# Altium footprint library jointbar.PCBLIB: 47 footprints (part 1 of 3)
Each footprint in its own frame and in the unit in brackets; x right, y up, seen from the top. Pads: shape width x height; smd on the part's side, far side on the other; paste and mask are expansions set on the pad; w line width, h text height; cw(c..) or ccw(c..) is an arc to the next point about the centre after c.
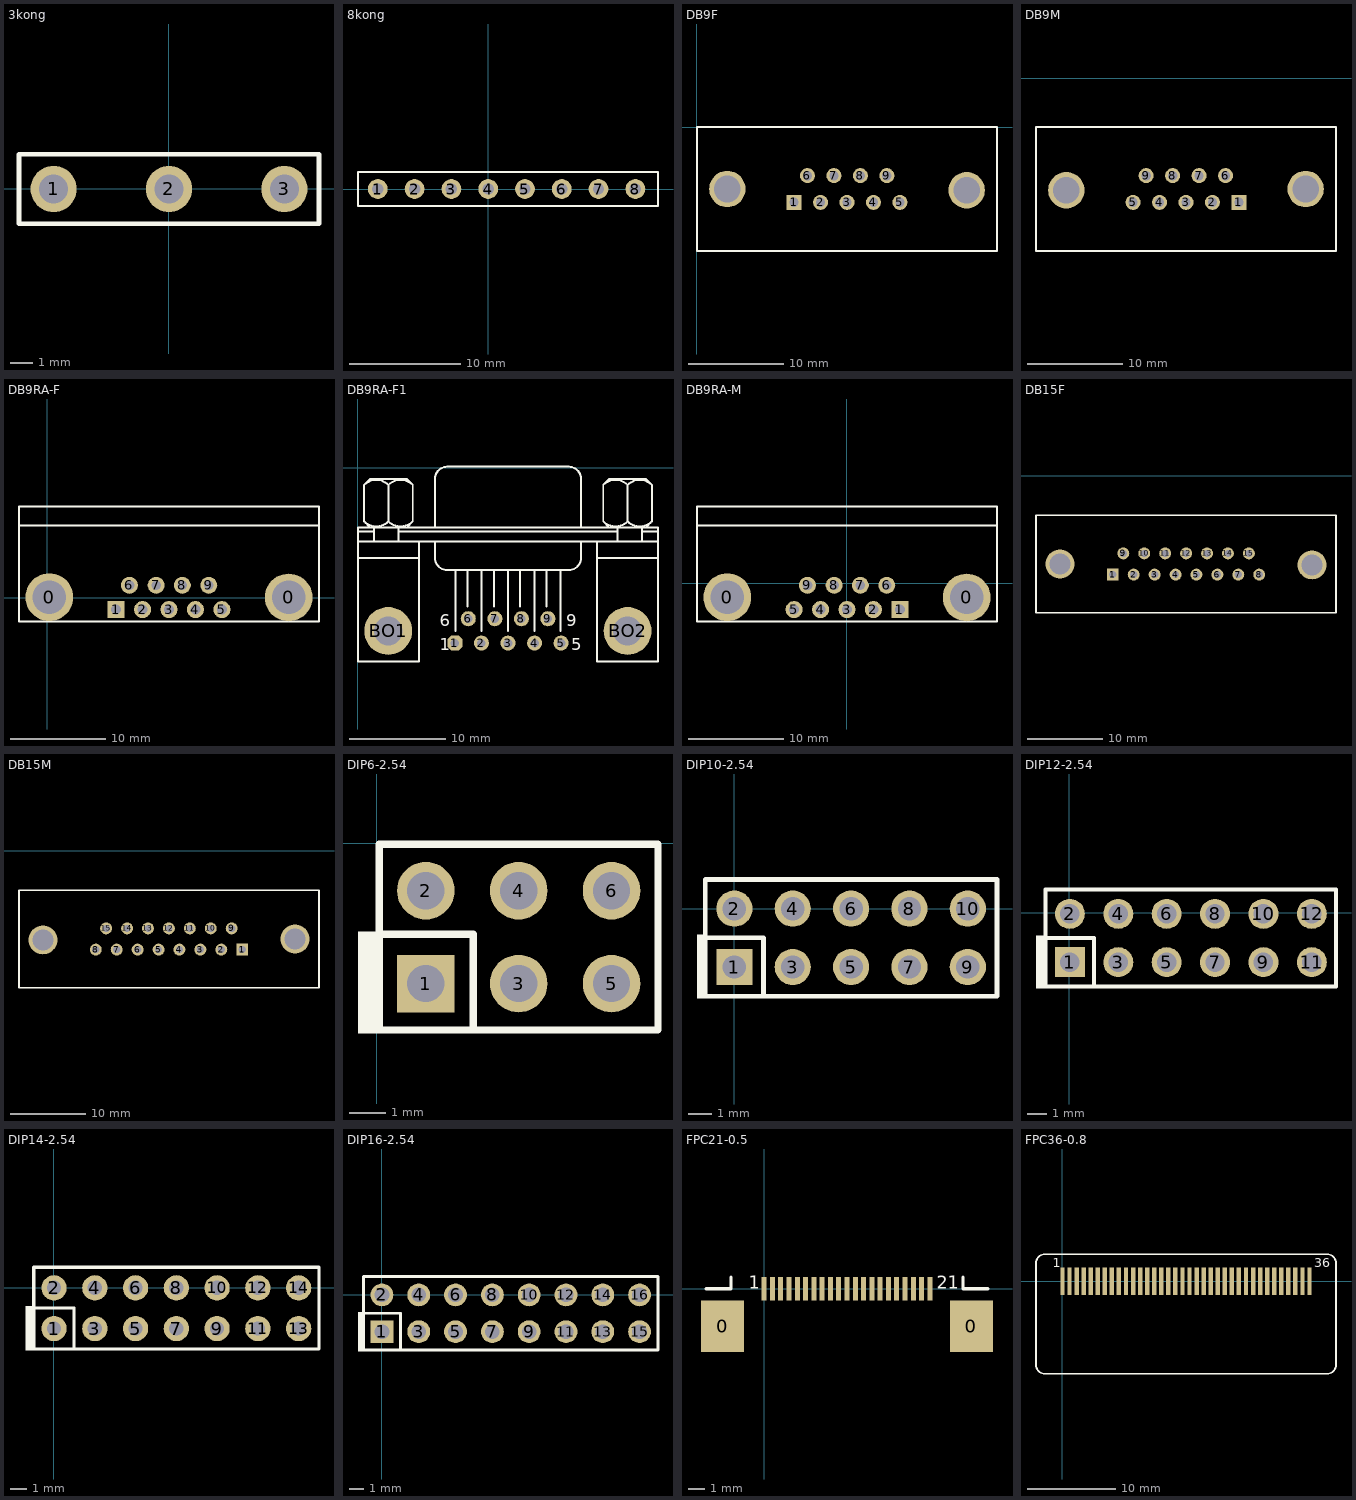
[diagram p0: the footprints below, top view; thin cyan lines are the x and y axes]

## 3kong [mil]
pads (3):
  round 80 hole 50: 1(-200,0) 2(0,0) 3(200,0)
TopOverlay:
  lines w8: -260,-60 -260,60 260,60 260,-60 -260,-60

## 8kong [mil]
pads (8):
  round 70 hole 40: 1(-390,0) 2(-260,0) 3(-130,0) 4(0,0) 5(130,0) 6(260,0) 7(390,0) 8(520,0)
TopOverlay:
  lines w8: -460,-60 580,-60 600,-60 600,60 -460,60 -460,-60

## DB9F [mil]
pads (11):
  rect 62x62 hole 38: 1(401,-310)
  round 62 hole 38: 2(510,-310) 3(619,-310) 4(728,-310) 5(837,-310) 6(456,-200) 7(565,-200) 8(674,-200) 9(783,-200)
  round 150 hole 110: ""(126,-255) ""(1112,-260)
TopOverlay:
  lines w8: 1,-510 1237,-510 1237,0 1,0 1,-510

## DB9M [mil]
pads (11):
  rect 62x62 hole 38: 1(1038,-512)
  round 62 hole 38: 2(929,-512) 3(820,-512) 4(711,-512) 5(602,-512) 6(983,-402) 7(874,-402) 8(765,-402) 9(656,-402)
  round 150 hole 110: ""(327,-462) ""(1313,-457)
TopOverlay:
  lines w8: 202,-712 202,-202 1438,-202 1438,-712 202,-712

## DB9RA-F [mil]
pads (11):
  round 196.85 hole 137.79: 0(8,2) 0(994,1)
  rect 70x70 hole 40: 1(283,-49)
  round 70 hole 40: 2(392,-49) 3(501,-49) 4(610,-49) 5(719,-49) 6(338,51) 7(448,51) 8(556,51) 9(665,51)
TopOverlay:
  lines w8: -117,297.26 1119,297.26 ; -117,-98.35 1119,-98.35 1119,376 -117,376 -117,-98.35

## DB9RA-F1 [mil]
pads (11):
  oct 62x62 hole 35: 1(400.26,-720.47)
  round 62 hole 35: 2(509.43,-720.47) 3(618.59,-720.47) 4(727.76,-720.47) 5(836.93,-720.47) 6(455.26,-620.47) 7(564.43,-620.47) 8(673.59,-620.47) 9(782.76,-620.47)
  round 196.67 hole 118.33: BO1(126.09,-670.47) BO2(1110.26,-670.47)
TopOverlay:
  lines w8: 1.93,-370.46 251.93,-370.46 ; 1.93,-303.8 1235.26,-303.8 ; 1.93,-262.13 68.59,-262.13 ; 26.84,-220.55 ccw(c76.93,-170.47) 127.01,-220.55 ; 26.84,-70.38 cw(c76.93,-120.47) 127.01,-70.38 ; 51.93,-245.47 26.93,-220.47 26.93,-70.47 51.93,-45.47 201.93,-45.47 226.93,-70.47 226.93,-220.47 201.93,-245.47 ; 68.59,-303.8 68.59,-245.47 ; 126.84,-220.55 ccw(c176.93,-170.47) 227.01,-220.55 ; 126.84,-70.38 cw(c176.93,-120.47) 227.01,-70.38 ; 126.93,-220.47 126.93,-70.47 ; 168.59,-303.8 168.59,-245.47 ; 168.59,-262.13 1068.59,-262.13 ; 251.93,-303.8 251.93,-795.47 1.93,-795.47 1.93,-245.47 1235.26,-245.47 1235.26,-795.47 985.26,-795.47 985.26,-303.8 ; 318.59,-303.8 318.59,-370.46 ccw(c368.59,-370.46) 368.59,-420.46 868.59,-420.46 ccw(c868.59,-370.46) 918.59,-370.46 918.59,-303.8 ; 318.59,-245.47 318.59,-45.47 cw(c368.59,-45.47) 368.59,4.53 868.59,4.54 cw(c868.59,-45.47) 918.59,-45.47 918.59,-245.47 ; 401.93,-670.47 401.93,-420.46 ; 451.93,-570.47 451.93,-420.46 ; 510.26,-670.47 510.26,-420.46 ; 560.26,-570.47 560.26,-420.46 ; 618.59,-670.47 618.59,-420.46 ; 668.59,-570.47 668.59,-420.46 ; 726.93,-670.47 726.93,-420.46 ; 776.93,-570.47 776.93,-420.46 ; 835.26,-670.47 835.26,-420.46 ; 985.26,-370.46 1235.26,-370.46 ; 1010.17,-220.55 ccw(c1060.26,-170.47) 1110.35,-220.55 ; 1010.17,-70.38 cw(c1060.26,-120.47) 1110.35,-70.38 ; 1035.26,-245.47 1010.26,-220.47 1010.26,-70.47 1035.26,-45.47 1185.26,-45.47 1210.26,-70.47 1210.26,-220.47 1185.26,-245.47 ; 1068.59,-303.8 1068.59,-245.47 ; 1110.17,-220.55 ccw(c1160.26,-170.47) 1210.35,-220.55 ; 1110.17,-70.38 cw(c1160.26,-120.47) 1210.35,-70.38 ; 1110.26,-220.47 1110.26,-70.47 ; 1168.59,-303.8 1168.59,-245.47 ; 1168.59,-262.13 1235.26,-262.13
  text "9" at 858.59,-650.47 h50
  text "5" at 878.59,-750.47 h50
  text "1" at 338.59,-750.47 h50
  text "6" at 338.59,-650.47 h50

## DB9RA-M [mil]
pads (11):
  round 196.85 hole 137.79: 0(-492,-58) 0(494,-59)
  rect 70x70 hole 40: 1(219,-109)
  round 70 hole 40: 2(110,-109) 3(1,-109) 4(-108,-109) 5(-217,-109) 6(165,-9) 7(56,-9) 8(-52,-9) 9(-162,-9)
TopOverlay:
  lines w8: -617,237.26 619,237.26 ; -617,-158.35 -617,316 619,316 619,-158.35 -617,-158.35

## DB15F [mil]
pads (17):
  rect 62x62 hole 38: 1(607,-515)
  round 62 hole 38: 2(716,-515) 3(825,-515) 4(934,-515) 5(1043,-515) 6(1152,-515) 7(1261,-515) 8(1370,-515) 9(662,-405) 10(771,-405) 11(880,-405) 12(989,-405) 13(1098,-405) 14(1207,-405) 15(1316,-405)
  round 150 hole 110: ""(332,-460) ""(1645,-465)
TopOverlay:
  lines w8: 207,-715 207,-205 1770,-205 1770,-715 207,-715

## DB15M [mil]
pads (17):
  rect 62x62 hole 38: 1(1369,-516)
  round 62 hole 38: 2(1260,-516) 3(1151,-516) 4(1042,-516) 5(933,-516) 6(824,-516) 7(715,-516) 8(606,-516) 9(1314,-406) 10(1205,-406) 11(1096,-406) 12(987,-406) 13(878,-406) 14(769,-406) 15(660,-406)
  round 150 hole 110: ""(331,-466) ""(1644,-461)
TopOverlay:
  lines w8: 206,-716 1769,-716 1769,-206 206,-206 206,-716

## DIP6-2.54 [mil]
pads (6):
  rect 62x62 hole 40: 1(53,-151)
  round 62 hole 40: 2(53,-51) 3(153,-151) 4(153,-51) 5(253,-151) 6(253,-51)
TopOverlay:
  rectangle: -20,-205 3,-95
  lines w8: 3,-98 104,-98 104,-200 ; 3,-201 3,-1 303,-1 303,-201 3,-201

## DIP10-2.54 [mil]
pads (10):
  rect 62x62 hole 40: 1(0,-100)
  round 62 hole 40: 2(0,0) 3(100,-100) 4(100,0) 5(200,-100) 6(200,0) 7(300,-100) 8(300,0) 9(400,-100) 10(400,0)
TopOverlay:
  rectangle: -64,-154 -50,-44
  lines w8: -50,-50 50,-50 50,-150 ; -50,-150 -50,50 450,50 450,-150 -50,-150

## DIP12-2.54 [mil]
pads (12):
  rect 62x62 hole 40: 1(1,-102)
  round 62 hole 40: 2(1,-2) 3(101,-102) 4(101,-2) 5(201,-102) 6(201,-2) 7(301,-102) 8(301,-2) 9(401,-102) 10(401,-2) 11(501,-102) 12(501,-2)
TopOverlay:
  rectangle: -69,-156 -49,-47
  lines w8: -49,-52 51,-52 51,-151 ; -49,-152 -49,48 551,48 551,-152 -49,-152

## DIP14-2.54 [mil]
pads (14):
  round 62 hole 35: 1(1,-99.67) 2(1,0.33) 3(101,-99.67) 4(101,0.33) 5(201,-99.67) 6(201,0.33) 7(301,-99.67) 8(301,0.33) 9(401,-99.67) 10(401,0.33) 11(501,-99.67) 12(501,0.33) 13(601,-99.67) 14(601,0.33)
TopOverlay:
  rectangle: -69,-153.67 -49,-44
  lines w8: -49,-49 49,-49 50,-50 50,-148.67 49,-149.67 ; -49,-149.67 -49,51 651,51 651,-149.67 -49,-149.67

## DIP16-2.54 [mil]
pads (16):
  rect 62x62 hole 40: 1(0,-100)
  round 62 hole 40: 2(0,0) 3(100,-100) 4(100,0) 5(200,-100) 6(200,0) 7(300,-100) 8(300,0) 9(400,-100) 10(400,0) 11(500,-100) 12(500,0) 13(600,-100) 14(600,0) 15(700,-100) 16(700,0)
TopOverlay:
  rectangle: -65,-154 -50,-46
  lines w8: -50,-50 50,-50 50,-150 ; -50,-150 -50,50 750,50 750,-150 -50,-150

## FPC21-0.5 [mm]
pads (23):
  rect 2.6x3.1 smd: 0(-2.5,-2.25) 0(12.5,-2.25)
  rect 0.3x1.4 smd: 1(0,0) 2(0.5,0) 3(1,0) 4(1.5,0) 5(2,0) 6(2.5,0) 7(3,0) 8(3.5,0) 9(4,0) 10(4.5,0) 11(5,0) 12(5.5,0) 13(6,0) 14(6.5,0) 15(7,0) 16(7.5,0) 17(8,0) 18(8.5,0) 19(9,0) 20(9.5,0) 21(10,0)
TopOverlay:
  lines w0.203: -3.5,0 -2,0 -2,0.7 ; 12,0.7 12,0 13.5,0
  text "21" at 10.414,0 h0.76
  text "1" at -0.914,0 h0.76

## FPC36-0.8 [mm]
pads (36):
  rect 0.5x3.1 smd: 1(0,0) 2(0.8,0) 3(1.6,0) 4(2.4,0) 5(3.2,0) 6(4,0) 7(4.8,0) 8(5.6,0) 9(6.4,0) 10(7.2,0) 11(8,0) 12(8.8,0) 13(9.6,0) 14(10.4,0) 15(11.2,0) 16(12,0) 17(12.8,0) 18(13.6,0) 19(14.4,0) 20(15.2,0) 21(16,0) 22(16.8,0) 23(17.6,0) 24(18.4,0) 25(19.2,0) 26(20,0) 27(20.8,0) 28(21.6,0) 29(22.4,0) 30(23.2,0) 31(24,0) 32(24.8,0) 33(25.6,0) 34(26.4,0) 35(27.2,0) 36(28,0)
TopOverlay:
  lines w0.203: -3,-9.5 ccw(c-2,-9.5) -2,-10.5 30,-10.5 ccw(c30,-9.5) 31,-9.5 31,2.05 ccw(c30,2.05) 30,3.05 -2,3.05 ccw(c-2,2.05) -3,2.05 -3,-9.5
  text "36" at 28.524,1.575 h1.02
  text "1" at -1.092,1.549 h1.02